# Altium integrated library Silicon Labs Isolation and Power.IntLib: 421 symbols (part 9 of 19)
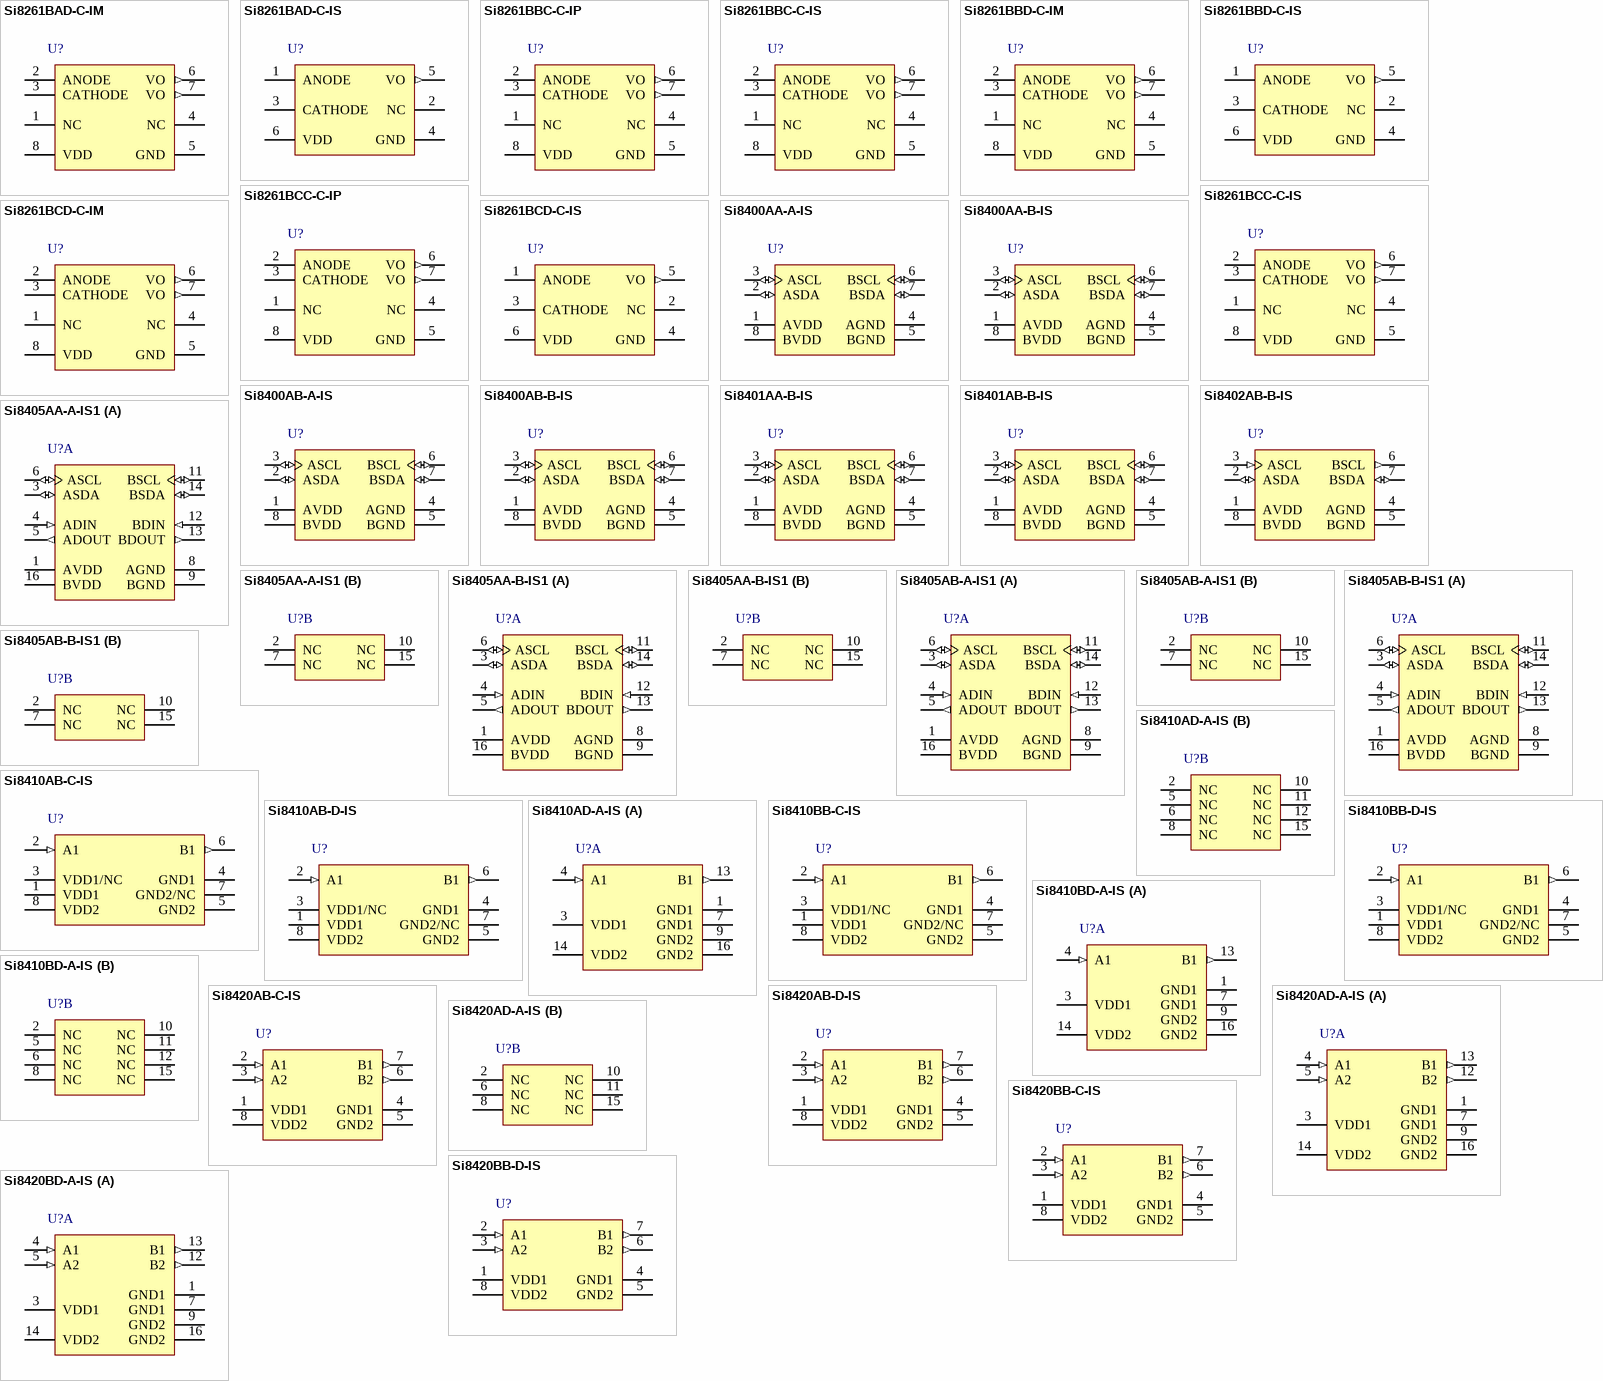
[diagram p22: symbols Si8261BAD-C-IM to Si8420BD-A-IS]

## Si8420BB-D-IS
designator U?
Low-Power Single and Dual-Channel Digital Isolator, 150 Mbps, 2.5 kVRMS Isolation Rating, -40 to 125 degC, 8-pin SOIC; Manufacturer: Silicon Labs; PartNumber: Si8420BB-D-IS; 10kV surge: FALSE; Channel Type: Unidirectional; Isolation Rating (kV): 2.5; Maximum Data Rate (Mbps): 150; Maximum Propagation Delay (ns): 9.5; Sub-Family: Isolators; DatasheetVersion: Rev. 1.4; PackageReference: SOIC-8-NB; PackageDescription: 8-Pin Narrow Body Plastic Small Outline, Body 4.9 x 3.9 mm, Pitch 1.27 mm; Supplier 1: Digi-Key; Supplier Part Number 1: 336-1754-5-ND; Supplier 2: Mouser; Supplier Part Number 2: 634-SI8420BB-D-IS; AEC-Q100: FALSE; Enable Control: FALSE; Mounting Technology: Surface Mount; ComponentLink1Description: Manufacturer URL; ComponentLink1URL: http://www.silabs.com/; ComponentLink2Description: Datasheet; ComponentLink2URL: http://www.silabs.com/Support%20Documents/TechnicalDocs/Si8410.pdf; ComponentLink3Description: Package Specification; ComponentLink3URL: http://www.silabs.com/Support%20Documents/TechnicalDocs/Si8220-21.pdf
footprint SLAB-SOIC-8-NB_N (SOIC, 8-Leads, Body 5x4mm, Pitch 1.27mm, IPC Medium Density)
footprint SLAB-SOIC-8-NB_L (SOIC, 8-Leads, Body 5x4mm, Pitch 1.27mm, IPC High Density)
footprint SLAB-SOIC-8-NB_M (SOIC, 8-Leads, Body 5x4mm, Pitch 1.27mm, IPC Low Density)
pins: 1 VDD1 (power) "Side 1 power supply.", 2 A1 (in) "Side 1 digital input.", 3 A2 (in) "Side 1 digital input.", 4 GND1 (power) "Side 1 ground.", 5 GND2 (power) "Side 2 ground.", 6 B2 (out) "Side 2 digital output.", 7 B1 (out) "Side 2 digital output.", 8 VDD2 (power) "Side 2 power supply."

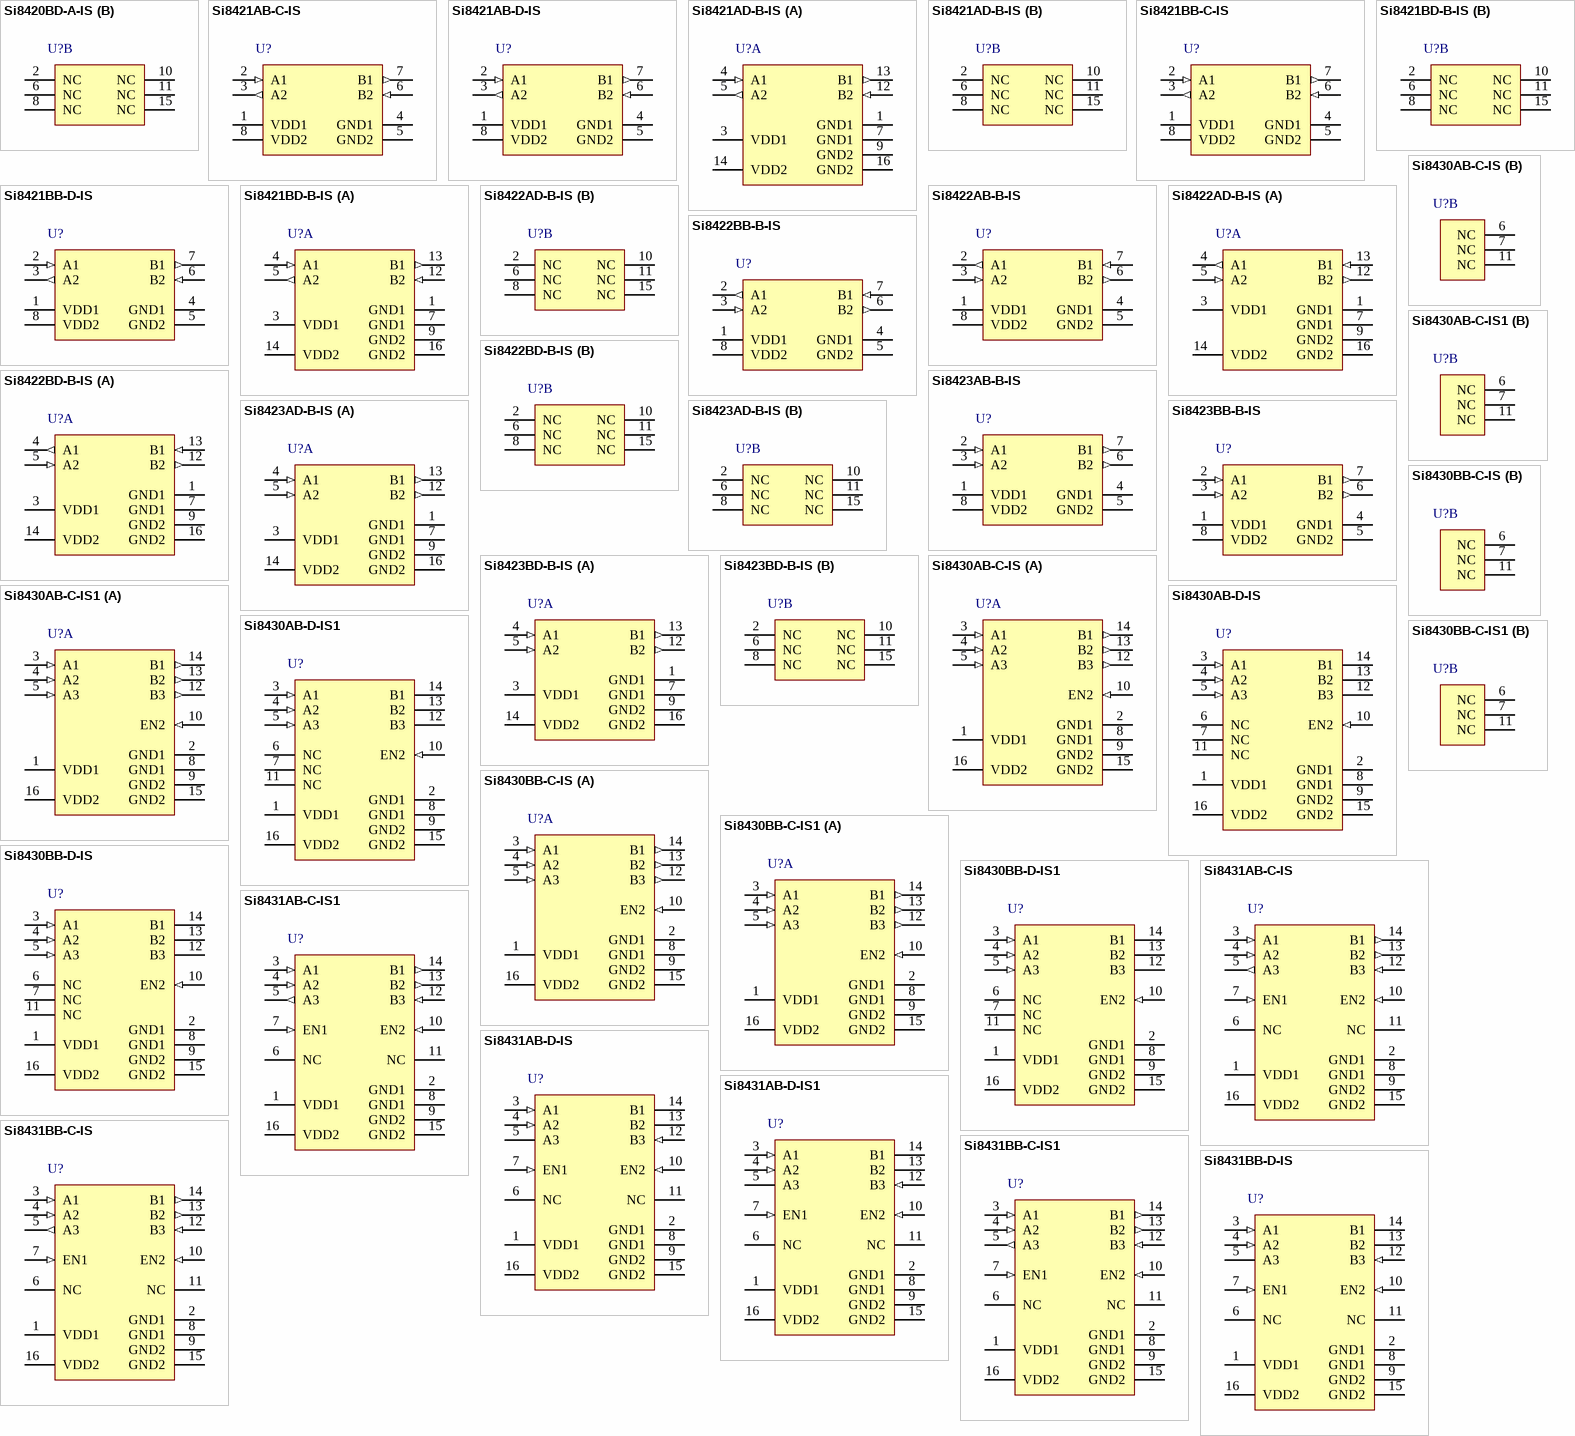
[diagram p6: symbols Si8420BD-A-IS to Si8431BB-D-IS]

## Si8420BD-A-IS
designator U?
Low-Power, Single and Dual-Channel Digital Isolator, 150 Mbps, 5 kVRMS Isolation Rating, -40 to 125 degC, 16-pin SOIC; Manufacturer: Silicon Labs; PartNumber: Si8420BD-A-IS; 10kV surge: FALSE; Channel Type: Unidirectional; Isolation Rating (kV): 5; Maximum Data Rate (Mbps): 150; Maximum Propagation Delay (ns): 11; Sub-Family: Isolators; DatasheetVersion: Rev. 1.2; PackageReference: SOIC-16-WB; PackageDescription: 16-Pin Wide Body Plastic Small Outline, Body 10.3 x 7.5 mm, Pitch 1.27 mm; Supplier 1: Digi-Key; Supplier Part Number 1: 336-1934-5-ND; Supplier 2: Mouser; Supplier Part Number 2: 634-SI8420BD-A-IS; AEC-Q100: FALSE; Enable Control: FALSE; Mounting Technology: Surface Mount; Code_JEDEC: MS-013; ComponentLink1Description: Manufacturer URL; ComponentLink1URL: http://www.silabs.com/; ComponentLink2Description: Datasheet; ComponentLink2URL: http://www.silabs.com/Support%20Documents/TechnicalDocs/Si841x-2x.pdf; ComponentLink3Description: Package Specification; ComponentLink3URL: https://www.silabs.com/Support%20Documents/TechnicalDocs/Si823x.pdf
footprint SLAB-SOIC-16-WB_N (SOIC, 16-Leads, Body 10.3x7.5mm, Pitch 1.27mm, IPC Medium Density)
footprint SLAB-SOIC-16-WB_L (SOIC, 16-Leads, Body 10.3x7.5mm, Pitch 1.27mm, IPC High Density)
footprint SLAB-SOIC-16-WB_M (SOIC, 16-Leads, Body 10.3x7.5mm, Pitch 1.27mm, IPC Low Density)
part A pins: 1 GND1 (power) "Side 1 ground.", 3 VDD1 (power) "Side 1 power supply.", 4 A1 (in) "Side 1 digital input.", 5 A2 (in) "Side 1 digital input.", 7 GND1 (power) "Side 1 ground.", 9 GND2 (power) "Side 2 ground.", 12 B2 (out) "Side 2 digital output.", 13 B1 (out) "Side 2 digital output.", 14 VDD2 (power) "Side 2 power supply.", 16 GND2 (power) "Side 2 ground."
part B pins: 2 NC "No Connect", 6 NC "No Connect", 8 NC "No Connect", 10 NC "No Connect", 11 NC "No Connect", 15 NC "No Connect"

## Si8421AB-C-IS
designator U?
Low-Power Single and Dual-Channel Digital Isolator, 1 Mbps, 2.5 kVRMS Isolation Rating, -40 to 125 degC, 8-pin SOIC; Manufacturer: Silicon Labs; PartNumber: Si8421AB-C-IS; Note: 0; 10kV surge: FALSE; Channel Type: Unidirectional; Isolation Rating (kV): 2.5; Maximum Data Rate (Mbps): 1; Maximum Propagation Delay (ns): 35; Sub-Family: Isolators; DatasheetVersion: Rev. 1.4; PackageReference: SOIC-8-NB; PackageDescription: 8-Pin Narrow Body Plastic Small Outline, Body 4.9 x 3.9 mm, Pitch 1.27 mm; AEC-Q100: FALSE; Enable Control: FALSE; Mounting Technology: Surface Mount; ComponentLink1Description: Manufacturer URL; ComponentLink1URL: http://www.silabs.com/; ComponentLink2Description: Datasheet; ComponentLink2URL: http://www.silabs.com/Support%20Documents/TechnicalDocs/Si8410.pdf; ComponentLink3Description: Package Specification; ComponentLink3URL: http://www.silabs.com/Support%20Documents/TechnicalDocs/Si8220-21.pdf
footprint SLAB-SOIC-8-NB_N (SOIC, 8-Leads, Body 5x4mm, Pitch 1.27mm, IPC Medium Density)
footprint SLAB-SOIC-8-NB_L (SOIC, 8-Leads, Body 5x4mm, Pitch 1.27mm, IPC High Density)
footprint SLAB-SOIC-8-NB_M (SOIC, 8-Leads, Body 5x4mm, Pitch 1.27mm, IPC Low Density)
pins: 1 VDD1 (power) "Side 1 power supply.", 2 A1 (in) "Side 1 digital input", 3 A2 (out) "Side 1 digital output.", 4 GND1 (power) "Side 1 ground.", 5 GND2 (power) "Side 2 ground.", 6 B2 (in) "Side 2 digital input", 7 B1 (out) "Side 2 digital output.", 8 VDD2 (power) "Side 2 power supply."

## Si8421AB-D-IS
designator U?
Low-Power Single and Dual-Channel Digital Isolator, 1 Mbps, 2.5 kVRMS Isolation Rating, -40 to 125 degC, 8-pin SOIC; Manufacturer: Silicon Labs; PartNumber: Si8421AB-D-IS; 10kV surge: FALSE; Channel Type: Unidirectional; Isolation Rating (kV): 2.5; Maximum Data Rate (Mbps): 1; Maximum Propagation Delay (ns): 35; Sub-Family: Isolators; DatasheetVersion: Rev. 1.4; PackageReference: SOIC-8-NB; PackageDescription: 8-Pin Narrow Body Plastic Small Outline, Body 4.9 x 3.9 mm, Pitch 1.27 mm; Supplier 1: Digi-Key; Supplier Part Number 1: 336-1755-5-ND; Supplier 2: Mouser; Supplier Part Number 2: 634-SI8421AB-D-IS; AEC-Q100: FALSE; Enable Control: FALSE; Mounting Technology: Surface Mount; ComponentLink1Description: Manufacturer URL; ComponentLink1URL: http://www.silabs.com/; ComponentLink2Description: Datasheet; ComponentLink2URL: http://www.silabs.com/Support%20Documents/TechnicalDocs/Si8410.pdf; ComponentLink3Description: Package Specification; ComponentLink3URL: http://www.silabs.com/Support%20Documents/TechnicalDocs/Si8220-21.pdf
footprint SLAB-SOIC-8-NB_N (SOIC, 8-Leads, Body 5x4mm, Pitch 1.27mm, IPC Medium Density)
footprint SLAB-SOIC-8-NB_L (SOIC, 8-Leads, Body 5x4mm, Pitch 1.27mm, IPC High Density)
footprint SLAB-SOIC-8-NB_M (SOIC, 8-Leads, Body 5x4mm, Pitch 1.27mm, IPC Low Density)
pins: 1 VDD1 (power) "Side 1 power supply.", 2 A1 (in) "Side 1 digital input", 3 A2 (out) "Side 1 digital output.", 4 GND1 (power) "Side 1 ground.", 5 GND2 (power) "Side 2 ground.", 6 B2 (in) "Side 2 digital input", 7 B1 (out) "Side 2 digital output.", 8 VDD2 (power) "Side 2 power supply."

## Si8421AD-B-IS
designator U?
Low-Power, Single and Dual-Channel Digital Isolator, 1 Mbps, 5 kVRMS Isolation Rating, -40 to 125 degC, 16-pin SOIC; Manufacturer: Silicon Labs; PartNumber: Si8421AD-B-IS; 10kV surge: FALSE; Channel Type: Unidirectional; Isolation Rating (kV): 5; Maximum Data Rate (Mbps): 1; Maximum Propagation Delay (ns): 35; Sub-Family: Isolators; DatasheetVersion: Rev. 1.2; PackageReference: SOIC-16-WB; PackageDescription: 16-Pin Wide Body Plastic Small Outline, Body 10.3 x 7.5 mm, Pitch 1.27 mm; Supplier 1: Digi-Key; Supplier Part Number 1: 336-1935-5-ND; Supplier 2: Mouser; Supplier Part Number 2: 634-SI8421AD-B-IS; AEC-Q100: FALSE; Enable Control: FALSE; Mounting Technology: Surface Mount; Code_JEDEC: MS-013; ComponentLink1Description: Manufacturer URL; ComponentLink1URL: http://www.silabs.com/; ComponentLink2Description: Datasheet; ComponentLink2URL: http://www.silabs.com/Support%20Documents/TechnicalDocs/Si841x-2x.pdf; ComponentLink3Description: Package Specification; ComponentLink3URL: https://www.silabs.com/Support%20Documents/TechnicalDocs/Si823x.pdf
footprint SLAB-SOIC-16-WB_N (SOIC, 16-Leads, Body 10.3x7.5mm, Pitch 1.27mm, IPC Medium Density)
footprint SLAB-SOIC-16-WB_L (SOIC, 16-Leads, Body 10.3x7.5mm, Pitch 1.27mm, IPC High Density)
footprint SLAB-SOIC-16-WB_M (SOIC, 16-Leads, Body 10.3x7.5mm, Pitch 1.27mm, IPC Low Density)
part A pins: 1 GND1 (power) "Side 1 ground.", 3 VDD1 (power) "Side 1 power supply.", 4 A1 (in) "Side 1 digital input.", 5 A2 (out) "Side 1 digital output.", 7 GND1 (power) "Side 1 ground.", 9 GND2 (power) "Side 2 ground.", 12 B2 (in) "Side 2 digital input.", 13 B1 (out) "Side 2 digital output.", 14 VDD2 (power) "Side 2 power supply.", 16 GND2 (power) "Side 2 ground."
part B pins: 2 NC "No Connect", 6 NC "No Connect", 8 NC "No Connect", 10 NC "No Connect", 11 NC "No Connect", 15 NC "No Connect"

## Si8421BB-C-IS
designator U?
Low-Power Single and Dual-Channel Digital Isolator, 150 Mbps, 2.5 kVRMS Isolation Rating, -40 to 125 degC, 8-pin SOIC; Manufacturer: Silicon Labs; PartNumber: Si8421BB-C-IS; 10kV surge: FALSE; Channel Type: Unidirectional; Isolation Rating (kV): 2.5; Maximum Data Rate (Mbps): 150; Maximum Propagation Delay (ns): 9.5; Sub-Family: Isolators; DatasheetVersion: Rev. 1.4; PackageReference: SOIC-8-NB; PackageDescription: 8-Pin Narrow Body Plastic Small Outline, Body 4.9 x 3.9 mm, Pitch 1.27 mm; Supplier 1: Mouser; Supplier Part Number 1: 634-SI8421BB-C-IS; AEC-Q100: FALSE; Enable Control: FALSE; Mounting Technology: Surface Mount; ComponentLink1Description: Manufacturer URL; ComponentLink1URL: http://www.silabs.com/; ComponentLink2Description: Datasheet; ComponentLink2URL: http://www.silabs.com/Support%20Documents/TechnicalDocs/Si8410.pdf; ComponentLink3Description: Package Specification; ComponentLink3URL: http://www.silabs.com/Support%20Documents/TechnicalDocs/Si8220-21.pdf
footprint SLAB-SOIC-8-NB_N (SOIC, 8-Leads, Body 5x4mm, Pitch 1.27mm, IPC Medium Density)
footprint SLAB-SOIC-8-NB_L (SOIC, 8-Leads, Body 5x4mm, Pitch 1.27mm, IPC High Density)
footprint SLAB-SOIC-8-NB_M (SOIC, 8-Leads, Body 5x4mm, Pitch 1.27mm, IPC Low Density)
pins: 1 VDD1 (power) "Side 1 power supply.", 2 A1 (in) "Side 1 digital input", 3 A2 (out) "Side 1 digital output.", 4 GND1 (power) "Side 1 ground.", 5 GND2 (power) "Side 2 ground.", 6 B2 (in) "Side 2 digital input", 7 B1 (out) "Side 2 digital output.", 8 VDD2 (power) "Side 2 power supply."

## Si8421BB-D-IS
designator U?
Low-Power Single and Dual-Channel Digital Isolator, 150 Mbps, 2.5 kVRMS Isolation Rating, -40 to 125 degC, 8-pin SOIC; Manufacturer: Silicon Labs; PartNumber: Si8421BB-D-IS; 10kV surge: FALSE; Channel Type: Unidirectional; Isolation Rating (kV): 2.5; Maximum Data Rate (Mbps): 150; Maximum Propagation Delay (ns): 9.5; Sub-Family: Isolators; DatasheetVersion: Rev. 1.4; PackageReference: SOIC-8-NB; PackageDescription: 8-Pin Narrow Body Plastic Small Outline, Body 4.9 x 3.9 mm, Pitch 1.27 mm; Supplier 1: Digi-Key; Supplier Part Number 1: 336-1756-5-ND; Supplier 2: Mouser; Supplier Part Number 2: 634-SI8421BB-D-IS; AEC-Q100: FALSE; Enable Control: FALSE; Mounting Technology: Surface Mount; ComponentLink1Description: Manufacturer URL; ComponentLink1URL: http://www.silabs.com/; ComponentLink2Description: Datasheet; ComponentLink2URL: http://www.silabs.com/Support%20Documents/TechnicalDocs/Si8410.pdf; ComponentLink3Description: Package Specification; ComponentLink3URL: http://www.silabs.com/Support%20Documents/TechnicalDocs/Si8220-21.pdf
footprint SLAB-SOIC-8-NB_N (SOIC, 8-Leads, Body 5x4mm, Pitch 1.27mm, IPC Medium Density)
footprint SLAB-SOIC-8-NB_L (SOIC, 8-Leads, Body 5x4mm, Pitch 1.27mm, IPC High Density)
footprint SLAB-SOIC-8-NB_M (SOIC, 8-Leads, Body 5x4mm, Pitch 1.27mm, IPC Low Density)
pins: 1 VDD1 (power) "Side 1 power supply.", 2 A1 (in) "Side 1 digital input", 3 A2 (out) "Side 1 digital output.", 4 GND1 (power) "Side 1 ground.", 5 GND2 (power) "Side 2 ground.", 6 B2 (in) "Side 2 digital input", 7 B1 (out) "Side 2 digital output.", 8 VDD2 (power) "Side 2 power supply."

## Si8421BD-B-IS
designator U?
Low-Power, Single and Dual-Channel Digital Isolator, 150 Mbps, 5 kVRMS Isolation Rating, -40 to 125 degC, 16-pin SOIC; Manufacturer: Silicon Labs; PartNumber: Si8421BD-B-IS; 10kV surge: FALSE; Channel Type: Unidirectional; Isolation Rating (kV): 5; Maximum Data Rate (Mbps): 150; Maximum Propagation Delay (ns): 11; Sub-Family: Isolators; DatasheetVersion: Rev. 1.2; PackageReference: SOIC-16-WB; PackageDescription: 16-Pin Wide Body Plastic Small Outline, Body 10.3 x 7.5 mm, Pitch 1.27 mm; Supplier 1: Digi-Key; Supplier Part Number 1: 336-1936-5-ND; Supplier 2: Mouser; Supplier Part Number 2: 634-SI8421BD-B-IS; AEC-Q100: FALSE; Enable Control: FALSE; Mounting Technology: Surface Mount; Code_JEDEC: MS-013; ComponentLink1Description: Manufacturer URL; ComponentLink1URL: http://www.silabs.com/; ComponentLink2Description: Datasheet; ComponentLink2URL: http://www.silabs.com/Support%20Documents/TechnicalDocs/Si841x-2x.pdf; ComponentLink3Description: Package Specification; ComponentLink3URL: https://www.silabs.com/Support%20Documents/TechnicalDocs/Si823x.pdf
footprint SLAB-SOIC-16-WB_N (SOIC, 16-Leads, Body 10.3x7.5mm, Pitch 1.27mm, IPC Medium Density)
footprint SLAB-SOIC-16-WB_L (SOIC, 16-Leads, Body 10.3x7.5mm, Pitch 1.27mm, IPC High Density)
footprint SLAB-SOIC-16-WB_M (SOIC, 16-Leads, Body 10.3x7.5mm, Pitch 1.27mm, IPC Low Density)
part A pins: 1 GND1 (power) "Side 1 ground.", 3 VDD1 (power) "Side 1 power supply.", 4 A1 (in) "Side 1 digital input.", 5 A2 (out) "Side 1 digital output.", 7 GND1 (power) "Side 1 ground.", 9 GND2 (power) "Side 2 ground.", 12 B2 (in) "Side 2 digital input.", 13 B1 (out) "Side 2 digital output.", 14 VDD2 (power) "Side 2 power supply.", 16 GND2 (power) "Side 2 ground."
part B pins: 2 NC "No Connect", 6 NC "No Connect", 8 NC "No Connect", 10 NC "No Connect", 11 NC "No Connect", 15 NC "No Connect"

## Si8422AB-B-IS
designator U?
Low-Power, Single and Dual-Channel Digital Isolator, 1 Mbps, 2.5 kVRMS Isolation Rating, -40 to 125 degC, 8-pin SOIC; Manufacturer: Silicon Labs; PartNumber: Si8422AB-B-IS; 10kV surge: FALSE; Channel Type: Unidirectional; Isolation Rating (kV): 2.5; Maximum Data Rate (Mbps): 1; Maximum Propagation Delay (ns): 35; Sub-Family: Isolators; DatasheetVersion: Rev. 1.2; PackageReference: SOIC-8-NB; PackageDescription: 8-Pin Narrow Body Plastic Small Outline, Body 4.9 x 3.9 mm, Pitch 1.27 mm; Supplier 1: Digi-Key; Supplier Part Number 1: SI8422AB-B-IS-ND; Supplier 2: Mouser; Supplier Part Number 2: 634-SI8422AB-B-IS; AEC-Q100: FALSE; Enable Control: FALSE; Mounting Technology: Surface Mount; ComponentLink1Description: Manufacturer URL; ComponentLink1URL: http://www.silabs.com/; ComponentLink2Description: Datasheet; ComponentLink2URL: http://www.silabs.com/Support%20Documents/TechnicalDocs/Si841x-2x.pdf; ComponentLink3Description: Package Specification; ComponentLink3URL: http://www.silabs.com/Support%20Documents/TechnicalDocs/Si8220-21.pdf
footprint SLAB-SOIC-8-NB_N (SOIC, 8-Leads, Body 5x4mm, Pitch 1.27mm, IPC Medium Density)
footprint SLAB-SOIC-8-NB_L (SOIC, 8-Leads, Body 5x4mm, Pitch 1.27mm, IPC High Density)
footprint SLAB-SOIC-8-NB_M (SOIC, 8-Leads, Body 5x4mm, Pitch 1.27mm, IPC Low Density)
pins: 1 VDD1 (power) "Side 1 power supply.", 2 A1 (out) "Side 1 digital output.", 3 A2 (in) "Side 1 digital input.", 4 GND1 (power) "Side 1 ground.", 5 GND2 (power) "Side 2 ground.", 6 B2 (out) "Side 2 digital output.", 7 B1 (in) "Side 2 digital input.", 8 VDD2 (power) "Side 2 power supply."

## Si8422AD-B-IS
designator U?
Low-Power, Single and Dual-Channel Digital Isolator, 1 Mbps, 5 kVRMS Isolation Rating, -40 to 125 degC, 16-pin SOIC; Manufacturer: Silicon Labs; PartNumber: Si8422AD-B-IS; 10kV surge: FALSE; Channel Type: Unidirectional; Isolation Rating (kV): 5; Maximum Data Rate (Mbps): 1; Maximum Propagation Delay (ns): 35; Sub-Family: Isolators; DatasheetVersion: Rev. 1.2; PackageReference: SOIC-16-WB; PackageDescription: 16-Pin Wide Body Plastic Small Outline, Body 10.3 x 7.5 mm, Pitch 1.27 mm; Supplier 1: Digi-Key; Supplier Part Number 1: 336-1937-5-ND; Supplier 2: Mouser; Supplier Part Number 2: 634-SI8422AD-B-IS; AEC-Q100: FALSE; Enable Control: FALSE; Mounting Technology: Surface Mount; Code_JEDEC: MS-013; ComponentLink1Description: Manufacturer URL; ComponentLink1URL: http://www.silabs.com/; ComponentLink2Description: Datasheet; ComponentLink2URL: http://www.silabs.com/Support%20Documents/TechnicalDocs/Si841x-2x.pdf; ComponentLink3Description: Package Specification; ComponentLink3URL: https://www.silabs.com/Support%20Documents/TechnicalDocs/Si823x.pdf
footprint SLAB-SOIC-16-WB_N (SOIC, 16-Leads, Body 10.3x7.5mm, Pitch 1.27mm, IPC Medium Density)
footprint SLAB-SOIC-16-WB_L (SOIC, 16-Leads, Body 10.3x7.5mm, Pitch 1.27mm, IPC High Density)
footprint SLAB-SOIC-16-WB_M (SOIC, 16-Leads, Body 10.3x7.5mm, Pitch 1.27mm, IPC Low Density)
part A pins: 1 GND1 (power) "Side 1 ground.", 3 VDD1 (power) "Side 1 power supply.", 4 A1 (out) "Side 1 digital output.", 5 A2 (in) "Side 1 digital intput.", 7 GND1 (power) "Side 1 ground.", 9 GND2 (power) "Side 2 ground.", 12 B2 (out) "Side 2 digital output.", 13 B1 (in) "Side 2 digital intput.", 14 VDD2 (power) "Side 2 power supply.", 16 GND2 (power) "Side 2 ground."
part B pins: 2 NC "No Connect", 6 NC "No Connect", 8 NC "No Connect", 10 NC "No Connect", 11 NC "No Connect", 15 NC "No Connect"

## Si8422BB-B-IS
designator U?
Low-Power, Single and Dual-Channel Digital Isolator, 150 Mbps, 2.5 kVRMS Isolation Rating, -40 to 125 degC, 8-pin SOIC; Manufacturer: Silicon Labs; PartNumber: Si8422BB-B-IS; 10kV surge: FALSE; Channel Type: Unidirectional; Isolation Rating (kV): 2.5; Maximum Data Rate (Mbps): 150; Maximum Propagation Delay (ns): 11; Sub-Family: Isolators; DatasheetVersion: Rev. 1.2; PackageReference: SOIC-8-NB; PackageDescription: 8-Pin Narrow Body Plastic Small Outline, Body 4.9 x 3.9 mm, Pitch 1.27 mm; Supplier 1: Digi-Key; Supplier Part Number 1: SI8422BB-B-IS-ND; Supplier 2: Mouser; Supplier Part Number 2: 634-SI8422BB-B-IS; AEC-Q100: FALSE; Enable Control: FALSE; Mounting Technology: Surface Mount; ComponentLink1Description: Manufacturer URL; ComponentLink1URL: http://www.silabs.com/; ComponentLink2Description: Datasheet; ComponentLink2URL: http://www.silabs.com/Support%20Documents/TechnicalDocs/Si841x-2x.pdf; ComponentLink3Description: Package Specification; ComponentLink3URL: http://www.silabs.com/Support%20Documents/TechnicalDocs/Si8220-21.pdf
footprint SLAB-SOIC-8-NB_N (SOIC, 8-Leads, Body 5x4mm, Pitch 1.27mm, IPC Medium Density)
footprint SLAB-SOIC-8-NB_L (SOIC, 8-Leads, Body 5x4mm, Pitch 1.27mm, IPC High Density)
footprint SLAB-SOIC-8-NB_M (SOIC, 8-Leads, Body 5x4mm, Pitch 1.27mm, IPC Low Density)
pins: 1 VDD1 (power) "Side 1 power supply.", 2 A1 (out) "Side 1 digital output.", 3 A2 (in) "Side 1 digital input.", 4 GND1 (power) "Side 1 ground.", 5 GND2 (power) "Side 2 ground.", 6 B2 (out) "Side 2 digital output.", 7 B1 (in) "Side 2 digital input.", 8 VDD2 (power) "Side 2 power supply."

## Si8422BD-B-IS
designator U?
Low-Power, Single and Dual-Channel Digital Isolator, 150 Mbps, 5 kVRMS Isolation Rating, -40 to 125 degC, 16-pin SOIC; Manufacturer: Silicon Labs; PartNumber: Si8422BD-B-IS; 10kV surge: FALSE; Channel Type: Unidirectional; Isolation Rating (kV): 5; Maximum Data Rate (Mbps): 150; Maximum Propagation Delay (ns): 11; Sub-Family: Isolators; DatasheetVersion: Rev. 1.2; PackageReference: SOIC-16-WB; PackageDescription: 16-Pin Wide Body Plastic Small Outline, Body 10.3 x 7.5 mm, Pitch 1.27 mm; Supplier 1: Digi-Key; Supplier Part Number 1: 336-1938-5-ND; Supplier 2: Mouser; Supplier Part Number 2: 634-SI8422BD-B-IS; AEC-Q100: FALSE; Enable Control: FALSE; Mounting Technology: Surface Mount; Code_JEDEC: MS-013; ComponentLink1Description: Manufacturer URL; ComponentLink1URL: http://www.silabs.com/; ComponentLink2Description: Datasheet; ComponentLink2URL: http://www.silabs.com/Support%20Documents/TechnicalDocs/Si841x-2x.pdf; ComponentLink3Description: Package Specification; ComponentLink3URL: https://www.silabs.com/Support%20Documents/TechnicalDocs/Si823x.pdf
footprint SLAB-SOIC-16-WB_N (SOIC, 16-Leads, Body 10.3x7.5mm, Pitch 1.27mm, IPC Medium Density)
footprint SLAB-SOIC-16-WB_L (SOIC, 16-Leads, Body 10.3x7.5mm, Pitch 1.27mm, IPC High Density)
footprint SLAB-SOIC-16-WB_M (SOIC, 16-Leads, Body 10.3x7.5mm, Pitch 1.27mm, IPC Low Density)
part A pins: 1 GND1 (power) "Side 1 ground.", 3 VDD1 (power) "Side 1 power supply.", 4 A1 (out) "Side 1 digital output.", 5 A2 (in) "Side 1 digital intput.", 7 GND1 (power) "Side 1 ground.", 9 GND2 (power) "Side 2 ground.", 12 B2 (out) "Side 2 digital output.", 13 B1 (in) "Side 2 digital intput.", 14 VDD2 (power) "Side 2 power supply.", 16 GND2 (power) "Side 2 ground."
part B pins: 2 NC "No Connect", 6 NC "No Connect", 8 NC "No Connect", 10 NC "No Connect", 11 NC "No Connect", 15 NC "No Connect"

## Si8423AB-B-IS
designator U?
Low-Power, Single and Dual-Channel Digital Isolator, 1 Mbps, 2.5 kVRMS Isolation Rating, -40 to 125 degC, 8-pin SOIC; Manufacturer: Silicon Labs; PartNumber: Si8423AB-B-IS; 10kV surge: FALSE; Channel Type: Unidirectional; Isolation Rating (kV): 2.5; Maximum Data Rate (Mbps): 1; Maximum Propagation Delay (ns): 35; Sub-Family: Isolators; DatasheetVersion: Rev. 1.2; PackageReference: SOIC-8-NB; PackageDescription: 8-Pin Narrow Body Plastic Small Outline, Body 4.9 x 3.9 mm, Pitch 1.27 mm; Supplier 1: Digi-Key; Supplier Part Number 1: SI8423AB-B-IS-ND; Supplier 2: Mouser; Supplier Part Number 2: 634-SI8423AB-B-IS; AEC-Q100: FALSE; Enable Control: FALSE; Mounting Technology: Surface Mount; ComponentLink1Description: Manufacturer URL; ComponentLink1URL: http://www.silabs.com/; ComponentLink2Description: Datasheet; ComponentLink2URL: http://www.silabs.com/Support%20Documents/TechnicalDocs/Si841x-2x.pdf; ComponentLink3Description: Package Specification; ComponentLink3URL: http://www.silabs.com/Support%20Documents/TechnicalDocs/Si8220-21.pdf
footprint SLAB-SOIC-8-NB_N (SOIC, 8-Leads, Body 5x4mm, Pitch 1.27mm, IPC Medium Density)
footprint SLAB-SOIC-8-NB_L (SOIC, 8-Leads, Body 5x4mm, Pitch 1.27mm, IPC High Density)
footprint SLAB-SOIC-8-NB_M (SOIC, 8-Leads, Body 5x4mm, Pitch 1.27mm, IPC Low Density)
pins: 1 VDD1 (power) "Side 1 power supply.", 2 A1 (in) "Side 1 digital input.", 3 A2 (in) "Side 1 digital input.", 4 GND1 (power) "Side 1 ground.", 5 GND2 (power) "Side 2 ground.", 6 B2 (out) "Side 2 digital output.", 7 B1 (out) "Side 2 digital output.", 8 VDD2 (power) "Side 2 power supply."

## Si8423AD-B-IS
designator U?
Low-Power, Single and Dual-Channel Digital Isolator, 1 Mbps, 5 kVRMS Isolation Rating, -40 to 125 degC, 16-pin SOIC; Manufacturer: Silicon Labs; PartNumber: Si8423AD-B-IS; 10kV surge: FALSE; Channel Type: Unidirectional; Isolation Rating (kV): 5; Maximum Data Rate (Mbps): 1; Maximum Propagation Delay (ns): 35; Sub-Family: Isolators; DatasheetVersion: Rev. 1.2; PackageReference: SOIC-16-WB; PackageDescription: 16-Pin Wide Body Plastic Small Outline, Body 10.3 x 7.5 mm, Pitch 1.27 mm; Supplier 1: Digi-Key; Supplier Part Number 1: 336-1939-5-ND; Supplier 2: Mouser; Supplier Part Number 2: 634-SI8423AD-B-IS; AEC-Q100: FALSE; Enable Control: FALSE; Mounting Technology: Surface Mount; Code_JEDEC: MS-013; ComponentLink1Description: Manufacturer URL; ComponentLink1URL: http://www.silabs.com/; ComponentLink2Description: Datasheet; ComponentLink2URL: http://www.silabs.com/Support%20Documents/TechnicalDocs/Si841x-2x.pdf; ComponentLink3Description: Package Specification; ComponentLink3URL: https://www.silabs.com/Support%20Documents/TechnicalDocs/Si823x.pdf
footprint SLAB-SOIC-16-WB_N (SOIC, 16-Leads, Body 10.3x7.5mm, Pitch 1.27mm, IPC Medium Density)
footprint SLAB-SOIC-16-WB_L (SOIC, 16-Leads, Body 10.3x7.5mm, Pitch 1.27mm, IPC High Density)
footprint SLAB-SOIC-16-WB_M (SOIC, 16-Leads, Body 10.3x7.5mm, Pitch 1.27mm, IPC Low Density)
part A pins: 1 GND1 (power) "Side 1 ground.", 3 VDD1 (power) "Side 1 power supply.", 4 A1 (in) "Side 1 digital input.", 5 A2 (in) "Side 1 digital input.", 7 GND1 (power) "Side 1 ground.", 9 GND2 (power) "Side 2 ground.", 12 B2 (out) "Side 2 digital output.", 13 B1 (out) "Side 2 digital output.", 14 VDD2 (power) "Side 2 power supply.", 16 GND2 (power) "Side 2 ground."
part B pins: 2 NC "No Connect", 6 NC "No Connect", 8 NC "No Connect", 10 NC "No Connect", 11 NC "No Connect", 15 NC "No Connect"

## Si8423BB-B-IS
designator U?
Low-Power, Single and Dual-Channel Digital Isolator, 150 Mbps, 2.5 kVRMS Isolation Rating, -40 to 125 degC, 8-pin SOIC; Manufacturer: Silicon Labs; PartNumber: Si8423BB-B-IS; 10kV surge: FALSE; Channel Type: Unidirectional; Isolation Rating (kV): 2.5; Maximum Data Rate (Mbps): 150; Maximum Propagation Delay (ns): 11; Sub-Family: Isolators; DatasheetVersion: Rev. 1.2; PackageReference: SOIC-8-NB; PackageDescription: 8-Pin Narrow Body Plastic Small Outline, Body 4.9 x 3.9 mm, Pitch 1.27 mm; Supplier 1: Digi-Key; Supplier Part Number 1: SI8423BB-B-IS-ND; Supplier 2: Mouser; Supplier Part Number 2: 634-SI8423BB-B-IS; AEC-Q100: FALSE; Enable Control: FALSE; Mounting Technology: Surface Mount; ComponentLink1Description: Manufacturer URL; ComponentLink1URL: http://www.silabs.com/; ComponentLink2Description: Datasheet; ComponentLink2URL: http://www.silabs.com/Support%20Documents/TechnicalDocs/Si841x-2x.pdf; ComponentLink3Description: Package Specification; ComponentLink3URL: http://www.silabs.com/Support%20Documents/TechnicalDocs/Si8220-21.pdf
footprint SLAB-SOIC-8-NB_N (SOIC, 8-Leads, Body 5x4mm, Pitch 1.27mm, IPC Medium Density)
footprint SLAB-SOIC-8-NB_L (SOIC, 8-Leads, Body 5x4mm, Pitch 1.27mm, IPC High Density)
footprint SLAB-SOIC-8-NB_M (SOIC, 8-Leads, Body 5x4mm, Pitch 1.27mm, IPC Low Density)
pins: 1 VDD1 (power) "Side 1 power supply.", 2 A1 (in) "Side 1 digital input.", 3 A2 (in) "Side 1 digital input.", 4 GND1 (power) "Side 1 ground.", 5 GND2 (power) "Side 2 ground.", 6 B2 (out) "Side 2 digital output.", 7 B1 (out) "Side 2 digital output.", 8 VDD2 (power) "Side 2 power supply."

## Si8423BD-B-IS
designator U?
Low-Power, Single and Dual-Channel Digital Isolator, 150 Mbps, 5 kVRMS Isolation Rating, -40 to 125 degC, 16-pin SOIC; Manufacturer: Silicon Labs; PartNumber: Si8423BD-B-IS; 10kV surge: FALSE; Channel Type: Unidirectional; Isolation Rating (kV): 5; Maximum Data Rate (Mbps): 150; Maximum Propagation Delay (ns): 11; Sub-Family: Isolators; DatasheetVersion: Rev. 1.2; PackageReference: SOIC-16-WB; PackageDescription: 16-Pin Wide Body Plastic Small Outline, Body 10.3 x 7.5 mm, Pitch 1.27 mm; Supplier 1: Digi-Key; Supplier Part Number 1: 336-1940-5-ND; Supplier 2: Mouser; Supplier Part Number 2: 634-SI8423BD-B-IS; AEC-Q100: FALSE; Enable Control: FALSE; Mounting Technology: Surface Mount; Code_JEDEC: MS-013; ComponentLink1Description: Manufacturer URL; ComponentLink1URL: http://www.silabs.com/; ComponentLink2Description: Datasheet; ComponentLink2URL: http://www.silabs.com/Support%20Documents/TechnicalDocs/Si841x-2x.pdf; ComponentLink3Description: Package Specification; ComponentLink3URL: https://www.silabs.com/Support%20Documents/TechnicalDocs/Si823x.pdf
footprint SLAB-SOIC-16-WB_N (SOIC, 16-Leads, Body 10.3x7.5mm, Pitch 1.27mm, IPC Medium Density)
footprint SLAB-SOIC-16-WB_L (SOIC, 16-Leads, Body 10.3x7.5mm, Pitch 1.27mm, IPC High Density)
footprint SLAB-SOIC-16-WB_M (SOIC, 16-Leads, Body 10.3x7.5mm, Pitch 1.27mm, IPC Low Density)
part A pins: 1 GND1 (power) "Side 1 ground.", 3 VDD1 (power) "Side 1 power supply.", 4 A1 (in) "Side 1 digital input.", 5 A2 (in) "Side 1 digital input.", 7 GND1 (power) "Side 1 ground.", 9 GND2 (power) "Side 2 ground.", 12 B2 (out) "Side 2 digital output.", 13 B1 (out) "Side 2 digital output.", 14 VDD2 (power) "Side 2 power supply.", 16 GND2 (power) "Side 2 ground."
part B pins: 2 NC "No Connect", 6 NC "No Connect", 8 NC "No Connect", 10 NC "No Connect", 11 NC "No Connect", 15 NC "No Connect"

## Si8430AB-C-IS
designator U?
Low-Power Triple-Channel Digital Isolator, 1 Mbps, 2.5 kVRMS Isolation Rating, -40 to 125 degC, 16-pin SOIC; Manufacturer: Silicon Labs; PartNumber: Si8430AB-C-IS; 10kV surge: FALSE; AEC-Q100: TRUE; Channel Type: Unidirectional; Isolation Rating (kV): 2.5; Maximum Data Rate (Mbps): 1; Maximum Propagation Delay (ns): 35; Sub-Family: Isolators; DatasheetVersion: Rev. 1.5; PackageReference: SOIC-16-WB; PackageDescription: 16-Pin Wide Body Plastic Small Outline, Body 10.3 x 7.5 mm, Pitch 1.27 mm; Supplier 1: Mouser; Supplier Part Number 1: 634-SI8430AB-C-IS; Enable Control: TRUE; Mounting Technology: Surface Mount; Code_JEDEC: MS-013; ComponentLink1Description: Manufacturer URL; ComponentLink1URL: http://www.silabs.com/; ComponentLink2Description: Datasheet; ComponentLink2URL: http://www.silabs.com/Support%20Documents/TechnicalDocs/Si843x.pdf; ComponentLink3Description: Package Specification; ComponentLink3URL: https://www.silabs.com/Support%20Documents/TechnicalDocs/Si823x.pdf
footprint SLAB-SOIC-16-WB_N (SOIC, 16-Leads, Body 10.3x7.5mm, Pitch 1.27mm, IPC Medium Density)
footprint SLAB-SOIC-16-WB_L (SOIC, 16-Leads, Body 10.3x7.5mm, Pitch 1.27mm, IPC High Density)
footprint SLAB-SOIC-16-WB_M (SOIC, 16-Leads, Body 10.3x7.5mm, Pitch 1.27mm, IPC Low Density)
part A pins: 1 VDD1 (power) "Side 1 power supply.", 2 GND1 (power) "Side 1 ground.", 3 A1 (in) "Side 1 digital input.", 4 A2 (in) "Side 1 digital input.", 5 A3 (in) "Side 1 digital input.", 8 GND1 (power) "Side 1 ground.", 9 GND2 (power) "Side 2 ground.", 10 EN2 (in) "Side 2 active high enable.", 12 B3 (out) "Side 2 digital output.", 13 B2 (out) "Side 2 digital output.", 14 B1 (out) "Side 2 digital output.", 15 GND2 (power) "Side 2 ground.", 16 VDD2 (power) "Side 2 power supply."
part B pins: 6 NC "No Connect.", 7 NC "No Connect.", 11 NC "No Connect."

## Si8430AB-C-IS1
designator U?
Low-Power Triple-Channel Digital Isolator, 1 Mbps, 2.5 kVRMS Isolation Rating, -40 to 125 degC, 16-pin SOIC; Manufacturer: Silicon Labs; PartNumber: Si8430AB-C-IS1; 10kV surge: FALSE; Channel Type: Unidirectional; Enable Control: TRUE; Isolation Rating (kV): 2.5; Maximum Data Rate (Mbps): 1; Maximum Propagation Delay (ns): 35; Sub-Family: Isolators; DatasheetVersion: Rev. 1.5; PackageReference: SOIC-16-NB; PackageDescription: 16-Pin Small-Outline Integrated Circuit, Body 9.9 x 3.9 mm, Pitch 1.27 mm; Supplier 1: Digi-Key; Supplier Part Number 1: SI8430AB-C-IS1-ND; AEC-Q100: FALSE; Mounting Technology: Surface Mount; Code_JEDEC: MS-012; Code_IPC: J-STD-020; ComponentLink1Description: Manufacturer URL; ComponentLink1URL: http://www.silabs.com/; ComponentLink2Description: Datasheet; ComponentLink2URL: http://www.silabs.com/Support%20Documents/TechnicalDocs/Si843x.pdf; ComponentLink3Description: Package Specification; ComponentLink3URL: http://www.silabs.com/Support%20Documents/TechnicalDocs/si2401.pdf
footprint SLAB-SOIC-16-NB_N (SOIC, 16-Leads, Body 9.9x3.9mm, Pitch 1.27mm, IPC Medium Density)
footprint SLAB-SOIC-16-NB_L (SOIC, 16-Leads, Body 9.9x3.9mm, Pitch 1.27mm, IPC High Density)
footprint SLAB-SOIC-16-NB_M (SOIC, 16-Leads, Body 9.9x3.9mm, Pitch 1.27mm, IPC Low Density)
part A pins: 1 VDD1 (power) "Side 1 power supply.", 2 GND1 (power) "Side 1 ground.", 3 A1 (in) "Side 1 digital input.", 4 A2 (in) "Side 1 digital input.", 5 A3 (in) "Side 1 digital input.", 8 GND1 (power) "Side 1 ground.", 9 GND2 (power) "Side 2 ground.", 10 EN2 (in) "Side 2 active high enable.", 12 B3 (out) "Side 2 digital output.", 13 B2 (out) "Side 2 digital output.", 14 B1 (out) "Side 2 digital output.", 15 GND2 (power) "Side 2 ground.", 16 VDD2 (power) "Side 2 power supply."
part B pins: 6 NC "No Connect.", 7 NC "No Connect.", 11 NC "No Connect."

## Si8430AB-D-IS
designator U?
Low-Power Triple-Channel Digital Isolator, 1 Mbps, 2.5 kVRMS Isolation Rating, -40 to 125 degC, 16-pin SOIC; Manufacturer: Silicon Labs; PartNumber: Si8430AB-D-IS; 10kV surge: FALSE; AEC-Q100: TRUE; Channel Type: Unidirectional; Isolation Rating (kV): 2.5; Maximum Data Rate (Mbps): 1; Maximum Propagation Delay (ns): 35; Sub-Family: Isolators; DatasheetVersion: Rev. 1.5; PackageReference: SOIC-16-WB; PackageDescription: 16-Pin Wide Body Plastic Small Outline, Body 10.3 x 7.5 mm, Pitch 1.27 mm; Supplier 1: Digi-Key; Supplier Part Number 1: SI8430AB-D-IS-ND; Supplier 2: Mouser; Supplier Part Number 2: 634-SI8430AB-D-IS; Enable Control: TRUE; Mounting Technology: Surface Mount; Code_JEDEC: MS-013; ComponentLink1Description: Manufacturer URL; ComponentLink1URL: http://www.silabs.com/; ComponentLink2Description: Datasheet; ComponentLink2URL: http://www.silabs.com/Support%20Documents/TechnicalDocs/Si843x.pdf; ComponentLink3Description: Package Specification; ComponentLink3URL: https://www.silabs.com/Support%20Documents/TechnicalDocs/Si823x.pdf
footprint SLAB-SOIC-16-WB_N (SOIC, 16-Leads, Body 10.3x7.5mm, Pitch 1.27mm, IPC Medium Density)
footprint SLAB-SOIC-16-WB_L (SOIC, 16-Leads, Body 10.3x7.5mm, Pitch 1.27mm, IPC High Density)
footprint SLAB-SOIC-16-WB_M (SOIC, 16-Leads, Body 10.3x7.5mm, Pitch 1.27mm, IPC Low Density)
pins: 1 VDD1 (power) "Side 1 power supply.", 2 GND1 (power) "Side 1 ground.", 3 A1 (in) "Side 1 digital input.", 4 A2 (in) "Side 1 digital input.", 5 A3 (in) "Side 1 digital input.", 6 NC "No Connect.", 7 NC "No Connect.", 8 GND1 (power) "Side 1 ground.", 9 GND2 (power) "Side 2 ground.", 10 EN2 (in) "Side 2 active high enable.", 11 NC "No Connect.", 12 B3 (hiz) "Side 2 digital output.", 13 B2 (hiz) "Side 2 digital output.", 14 B1 (hiz) "Side 2 digital output.", 15 GND2 (power) "Side 2 ground.", 16 VDD2 (power) "Side 2 power supply."

## Si8430AB-D-IS1
designator U?
Low-Power Triple-Channel Digital Isolator, 1 Mbps, 2.5 kVRMS Isolation Rating, -40 to 125 degC, 16-pin SOIC; Manufacturer: Silicon Labs; PartNumber: Si8430AB-D-IS1; 10kV surge: FALSE; Channel Type: Unidirectional; Enable Control: TRUE; Isolation Rating (kV): 2.5; Maximum Data Rate (Mbps): 1; Maximum Propagation Delay (ns): 35; Sub-Family: Isolators; DatasheetVersion: Rev. 1.5; PackageReference: SOIC-16-NB; PackageDescription: 16-Pin Small-Outline Integrated Circuit, Body 9.9 x 3.9 mm, Pitch 1.27 mm; Supplier 1: Digi-Key; Supplier Part Number 1: 336-1757-5-ND; Supplier 2: Mouser; Supplier Part Number 2: 634-SI8430AB-D-IS1; AEC-Q100: FALSE; Mounting Technology: Surface Mount; Code_JEDEC: MS-012; Code_IPC: J-STD-020; ComponentLink1Description: Manufacturer URL; ComponentLink1URL: http://www.silabs.com/; ComponentLink2Description: Datasheet; ComponentLink2URL: http://www.silabs.com/Support%20Documents/TechnicalDocs/Si843x.pdf; ComponentLink3Description: Package Specification; ComponentLink3URL: http://www.silabs.com/Support%20Documents/TechnicalDocs/si2401.pdf
footprint SLAB-SOIC-16-NB_N (SOIC, 16-Leads, Body 9.9x3.9mm, Pitch 1.27mm, IPC Medium Density)
footprint SLAB-SOIC-16-NB_L (SOIC, 16-Leads, Body 9.9x3.9mm, Pitch 1.27mm, IPC High Density)
footprint SLAB-SOIC-16-NB_M (SOIC, 16-Leads, Body 9.9x3.9mm, Pitch 1.27mm, IPC Low Density)
pins: 1 VDD1 (power) "Side 1 power supply.", 2 GND1 (power) "Side 1 ground.", 3 A1 (in) "Side 1 digital input.", 4 A2 (in) "Side 1 digital input.", 5 A3 (in) "Side 1 digital input.", 6 NC "No Connect.", 7 NC "No Connect.", 8 GND1 (power) "Side 1 ground.", 9 GND2 (power) "Side 2 ground.", 10 EN2 (in) "Side 2 active high enable.", 11 NC "No Connect.", 12 B3 (hiz) "Side 2 digital output.", 13 B2 (hiz) "Side 2 digital output.", 14 B1 (hiz) "Side 2 digital output.", 15 GND2 (power) "Side 2 ground.", 16 VDD2 (power) "Side 2 power supply."

## Si8430BB-C-IS
designator U?
Low-Power Triple-Channel Digital Isolator, 150 Mbps, 2.5 kVRMS Isolation Rating, -40 to 125 degC, 16-pin SOIC; Manufacturer: Silicon Labs; PartNumber: Si8430BB-C-IS; 10kV surge: FALSE; Channel Type: Unidirectional; Enable Control: TRUE; Isolation Rating (kV): 2.5; Maximum Data Rate (Mbps): 150; Maximum Propagation Delay (ns): 9.5; Sub-Family: Isolators; DatasheetVersion: Rev. 1.5; PackageReference: SOIC-16-WB; PackageDescription: 16-Pin Wide Body Plastic Small Outline, Body 10.3 x 7.5 mm, Pitch 1.27 mm; Supplier 1: Mouser; Supplier Part Number 1: 634-SI8430BB-C-IS; AEC-Q100: FALSE; Mounting Technology: Surface Mount; Code_JEDEC: MS-013; ComponentLink1Description: Manufacturer URL; ComponentLink1URL: http://www.silabs.com/; ComponentLink2Description: Datasheet; ComponentLink2URL: http://www.silabs.com/Support%20Documents/TechnicalDocs/Si843x.pdf; ComponentLink3Description: Package Specification; ComponentLink3URL: https://www.silabs.com/Support%20Documents/TechnicalDocs/Si823x.pdf
footprint SLAB-SOIC-16-WB_N (SOIC, 16-Leads, Body 10.3x7.5mm, Pitch 1.27mm, IPC Medium Density)
footprint SLAB-SOIC-16-WB_L (SOIC, 16-Leads, Body 10.3x7.5mm, Pitch 1.27mm, IPC High Density)
footprint SLAB-SOIC-16-WB_M (SOIC, 16-Leads, Body 10.3x7.5mm, Pitch 1.27mm, IPC Low Density)
part A pins: 1 VDD1 (power) "Side 1 power supply.", 2 GND1 (power) "Side 1 ground.", 3 A1 (in) "Side 1 digital input.", 4 A2 (in) "Side 1 digital input.", 5 A3 (in) "Side 1 digital input.", 8 GND1 (power) "Side 1 ground.", 9 GND2 (power) "Side 2 ground.", 10 EN2 (in) "Side 2 active high enable.", 12 B3 (out) "Side 2 digital output.", 13 B2 (out) "Side 2 digital output.", 14 B1 (out) "Side 2 digital output.", 15 GND2 (power) "Side 2 ground.", 16 VDD2 (power) "Side 2 power supply."
part B pins: 6 NC "No Connect.", 7 NC "No Connect.", 11 NC "No Connect."

## Si8430BB-C-IS1
designator U?
Low-Power Triple-Channel Digital Isolator, 150 Mbps, 2.5 kVRMS Isolation Rating, -40 to 125 degC, 16-pin SOIC; Manufacturer: Silicon Labs; PartNumber: Si8430BB-C-IS1; 10kV surge: FALSE; AEC-Q100: TRUE; Channel Type: Unidirectional; Isolation Rating (kV): 2.5; Maximum Data Rate (Mbps): 150; Maximum Propagation Delay (ns): 9.5; Sub-Family: Isolators; DatasheetVersion: Rev. 1.5; PackageReference: SOIC-16-NB; PackageDescription: 16-Pin Small-Outline Integrated Circuit, Body 9.9 x 3.9 mm, Pitch 1.27 mm; Supplier 1: Digi-Key; Supplier Part Number 1: SI8430BB-C-IS1-ND; Supplier 2: Mouser; Supplier Part Number 2: 634-SI8430BB-C-IS1; Enable Control: TRUE; Mounting Technology: Surface Mount; Code_JEDEC: MS-012; Code_IPC: J-STD-020; ComponentLink1Description: Manufacturer URL; ComponentLink1URL: http://www.silabs.com/; ComponentLink2Description: Datasheet; ComponentLink2URL: http://www.silabs.com/Support%20Documents/TechnicalDocs/Si843x.pdf; ComponentLink3Description: Package Specification; ComponentLink3URL: http://www.silabs.com/Support%20Documents/TechnicalDocs/si2401.pdf
footprint SLAB-SOIC-16-NB_N (SOIC, 16-Leads, Body 9.9x3.9mm, Pitch 1.27mm, IPC Medium Density)
footprint SLAB-SOIC-16-NB_L (SOIC, 16-Leads, Body 9.9x3.9mm, Pitch 1.27mm, IPC High Density)
footprint SLAB-SOIC-16-NB_M (SOIC, 16-Leads, Body 9.9x3.9mm, Pitch 1.27mm, IPC Low Density)
part A pins: 1 VDD1 (power) "Side 1 power supply.", 2 GND1 (power) "Side 1 ground.", 3 A1 (in) "Side 1 digital input.", 4 A2 (in) "Side 1 digital input.", 5 A3 (in) "Side 1 digital input.", 8 GND1 (power) "Side 1 ground.", 9 GND2 (power) "Side 2 ground.", 10 EN2 (in) "Side 2 active high enable.", 12 B3 (out) "Side 2 digital output.", 13 B2 (out) "Side 2 digital output.", 14 B1 (out) "Side 2 digital output.", 15 GND2 (power) "Side 2 ground.", 16 VDD2 (power) "Side 2 power supply."
part B pins: 6 NC "No Connect.", 7 NC "No Connect.", 11 NC "No Connect."

## Si8430BB-D-IS
designator U?
Low-Power Triple-Channel Digital Isolator, 150 Mbps, 2.5 kVRMS Isolation Rating, -40 to 125 degC, 16-pin SOIC; Manufacturer: Silicon Labs; PartNumber: Si8430BB-D-IS; 10kV surge: FALSE; AEC-Q100: TRUE; Channel Type: Unidirectional; Isolation Rating (kV): 2.5; Maximum Data Rate (Mbps): 150; Maximum Propagation Delay (ns): 9.5; Sub-Family: Isolators; DatasheetVersion: Rev. 1.5; PackageReference: SOIC-16-WB; PackageDescription: 16-Pin Wide Body Plastic Small Outline, Body 10.3 x 7.5 mm, Pitch 1.27 mm; Supplier 1: Digi-Key; Supplier Part Number 1: SI8430BB-D-IS-ND; Supplier 2: Mouser; Supplier Part Number 2: 634-SI8430BB-D-IS; Enable Control: TRUE; Mounting Technology: Surface Mount; Code_JEDEC: MS-013; ComponentLink1Description: Manufacturer URL; ComponentLink1URL: http://www.silabs.com/; ComponentLink2Description: Datasheet; ComponentLink2URL: http://www.silabs.com/Support%20Documents/TechnicalDocs/Si843x.pdf; ComponentLink3Description: Package Specification; ComponentLink3URL: https://www.silabs.com/Support%20Documents/TechnicalDocs/Si823x.pdf
footprint SLAB-SOIC-16-WB_N (SOIC, 16-Leads, Body 10.3x7.5mm, Pitch 1.27mm, IPC Medium Density)
footprint SLAB-SOIC-16-WB_L (SOIC, 16-Leads, Body 10.3x7.5mm, Pitch 1.27mm, IPC High Density)
footprint SLAB-SOIC-16-WB_M (SOIC, 16-Leads, Body 10.3x7.5mm, Pitch 1.27mm, IPC Low Density)
pins: 1 VDD1 (power) "Side 1 power supply.", 2 GND1 (power) "Side 1 ground.", 3 A1 (in) "Side 1 digital input.", 4 A2 (in) "Side 1 digital input.", 5 A3 (in) "Side 1 digital input.", 6 NC "No Connect.", 7 NC "No Connect.", 8 GND1 (power) "Side 1 ground.", 9 GND2 (power) "Side 2 ground.", 10 EN2 (in) "Side 2 active high enable.", 11 NC "No Connect.", 12 B3 (hiz) "Side 2 digital output.", 13 B2 (hiz) "Side 2 digital output.", 14 B1 (hiz) "Side 2 digital output.", 15 GND2 (power) "Side 2 ground.", 16 VDD2 (power) "Side 2 power supply."

## Si8430BB-D-IS1
designator U?
Low-Power Triple-Channel Digital Isolator, 150 Mbps, 2.5 kVRMS Isolation Rating, -40 to 125 degC, 16-pin SOIC; Manufacturer: Silicon Labs; PartNumber: Si8430BB-D-IS1; 10kV surge: FALSE; AEC-Q100: TRUE; Channel Type: Unidirectional; Isolation Rating (kV): 2.5; Maximum Data Rate (Mbps): 150; Maximum Propagation Delay (ns): 9.5; Sub-Family: Isolators; DatasheetVersion: Rev. 1.5; PackageReference: SOIC-16-NB; PackageDescription: 16-Pin Small-Outline Integrated Circuit, Body 9.9 x 3.9 mm, Pitch 1.27 mm; Supplier 1: Digi-Key; Supplier Part Number 1: SI8430BB-D-IS1-ND; Supplier 2: Mouser; Supplier Part Number 2: 634-SI8430BB-D-IS1; Enable Control: TRUE; Mounting Technology: Surface Mount; Code_JEDEC: MS-012; Code_IPC: J-STD-020; ComponentLink1Description: Manufacturer URL; ComponentLink1URL: http://www.silabs.com/; ComponentLink2Description: Datasheet; ComponentLink2URL: http://www.silabs.com/Support%20Documents/TechnicalDocs/Si843x.pdf; ComponentLink3Description: Package Specification; ComponentLink3URL: http://www.silabs.com/Support%20Documents/TechnicalDocs/si2401.pdf
footprint SLAB-SOIC-16-NB_N (SOIC, 16-Leads, Body 9.9x3.9mm, Pitch 1.27mm, IPC Medium Density)
footprint SLAB-SOIC-16-NB_L (SOIC, 16-Leads, Body 9.9x3.9mm, Pitch 1.27mm, IPC High Density)
footprint SLAB-SOIC-16-NB_M (SOIC, 16-Leads, Body 9.9x3.9mm, Pitch 1.27mm, IPC Low Density)
pins: 1 VDD1 (power) "Side 1 power supply.", 2 GND1 (power) "Side 1 ground.", 3 A1 (in) "Side 1 digital input.", 4 A2 (in) "Side 1 digital input.", 5 A3 (in) "Side 1 digital input.", 6 NC "No Connect.", 7 NC "No Connect.", 8 GND1 (power) "Side 1 ground.", 9 GND2 (power) "Side 2 ground.", 10 EN2 (in) "Side 2 active high enable.", 11 NC "No Connect.", 12 B3 (hiz) "Side 2 digital output.", 13 B2 (hiz) "Side 2 digital output.", 14 B1 (hiz) "Side 2 digital output.", 15 GND2 (power) "Side 2 ground.", 16 VDD2 (power) "Side 2 power supply."

## Si8431AB-C-IS
designator U?
Low-Power Triple-Channel Digital Isolator, 1 Mbps, 2.5 kVRMS Isolation Rating, -40 to 125 degC, 16-pin SOIC; Manufacturer: Silicon Labs; PartNumber: Si8431AB-C-IS; Note: 0; 10kV surge: FALSE; AEC-Q100: TRUE; Channel Type: Unidirectional; Isolation Rating (kV): 2.5; Maximum Data Rate (Mbps): 1; Maximum Propagation Delay (ns): 35; Sub-Family: Isolators; DatasheetVersion: Rev. 1.5; PackageReference: SOIC-16-WB; PackageDescription: 16-Pin Wide Body Plastic Small Outline, Body 10.3 x 7.5 mm, Pitch 1.27 mm; Enable Control: TRUE; Mounting Technology: Surface Mount; Code_JEDEC: MS-013; ComponentLink1Description: Manufacturer URL; ComponentLink1URL: http://www.silabs.com/; ComponentLink2Description: Datasheet; ComponentLink2URL: http://www.silabs.com/Support%20Documents/TechnicalDocs/Si843x.pdf; ComponentLink3Description: Package Specification; ComponentLink3URL: https://www.silabs.com/Support%20Documents/TechnicalDocs/Si823x.pdf
footprint SLAB-SOIC-16-WB_N (SOIC, 16-Leads, Body 10.3x7.5mm, Pitch 1.27mm, IPC Medium Density)
footprint SLAB-SOIC-16-WB_L (SOIC, 16-Leads, Body 10.3x7.5mm, Pitch 1.27mm, IPC High Density)
footprint SLAB-SOIC-16-WB_M (SOIC, 16-Leads, Body 10.3x7.5mm, Pitch 1.27mm, IPC Low Density)
pins: 1 VDD1 (power) "Side 1 power supply.", 2 GND1 (power) "Side 1 ground.", 3 A1 (in) "Side 1 digital input.", 4 A2 (in) "Side 1 digital input.", 5 A3 (out) "Side 2 digital output.", 6 NC "No Connect.", 7 EN1 (in) "Side 1 active high enable", 8 GND1 (power) "Side 1 ground.", 9 GND2 (power) "Side 2 ground.", 10 EN2 (in) "Side 2 active high enable.", 11 NC "No Connect.", 12 B3 (in) "Side 1 digital input.", 13 B2 (out) "Side 2 digital output.", 14 B1 (out) "Side 2 digital output.", 15 GND2 (power) "Side 2 ground.", 16 VDD2 (power) "Side 2 power supply."

## Si8431AB-C-IS1
designator U?
Low-Power Triple-Channel Digital Isolator, 1 Mbps, 2.5 kVRMS Isolation Rating, -40 to 125 degC, 16-pin SOIC; Manufacturer: Silicon Labs; PartNumber: Si8431AB-C-IS1; 10kV surge: FALSE; AEC-Q100: TRUE; Channel Type: Unidirectional; Isolation Rating (kV): 2.5; Maximum Data Rate (Mbps): 1; Maximum Propagation Delay (ns): 35; Sub-Family: Isolators; DatasheetVersion: Rev. 1.5; PackageReference: SOIC-16-NB; PackageDescription: 16-Pin Small-Outline Integrated Circuit, Body 9.9 x 3.9 mm, Pitch 1.27 mm; Supplier 1: Digi-Key; Supplier Part Number 1: SI8431AB-C-IS1-ND; Enable Control: TRUE; Mounting Technology: Surface Mount; Code_JEDEC: MS-012; Code_IPC: J-STD-020; ComponentLink1Description: Manufacturer URL; ComponentLink1URL: http://www.silabs.com/; ComponentLink2Description: Datasheet; ComponentLink2URL: http://www.silabs.com/Support%20Documents/TechnicalDocs/Si843x.pdf; ComponentLink3Description: Package Specification; ComponentLink3URL: http://www.silabs.com/Support%20Documents/TechnicalDocs/si2401.pdf
footprint SLAB-SOIC-16-NB_N (SOIC, 16-Leads, Body 9.9x3.9mm, Pitch 1.27mm, IPC Medium Density)
footprint SLAB-SOIC-16-NB_L (SOIC, 16-Leads, Body 9.9x3.9mm, Pitch 1.27mm, IPC High Density)
footprint SLAB-SOIC-16-NB_M (SOIC, 16-Leads, Body 9.9x3.9mm, Pitch 1.27mm, IPC Low Density)
pins: 1 VDD1 (power) "Side 1 power supply.", 2 GND1 (power) "Side 1 ground.", 3 A1 (in) "Side 1 digital input.", 4 A2 (in) "Side 1 digital input.", 5 A3 (out) "Side 2 digital output.", 6 NC "No Connect.", 7 EN1 (in) "Side 1 active high enable", 8 GND1 (power) "Side 1 ground.", 9 GND2 (power) "Side 2 ground.", 10 EN2 (in) "Side 2 active high enable.", 11 NC "No Connect.", 12 B3 (in) "Side 1 digital input.", 13 B2 (out) "Side 2 digital output.", 14 B1 (out) "Side 2 digital output.", 15 GND2 (power) "Side 2 ground.", 16 VDD2 (power) "Side 2 power supply."

## Si8431AB-D-IS
designator U?
Low-Power Triple-Channel Digital Isolator, 1 Mbps, 2.5 kVRMS Isolation Rating, -40 to 125 degC, 16-pin SOIC; Manufacturer: Silicon Labs; PartNumber: Si8431AB-D-IS; 10kV surge: FALSE; AEC-Q100: TRUE; Channel Type: Unidirectional; Isolation Rating (kV): 2.5; Maximum Data Rate (Mbps): 1; Maximum Propagation Delay (ns): 35; Sub-Family: Isolators; DatasheetVersion: Rev. 1.5; PackageReference: SOIC-16-WB; PackageDescription: 16-Pin Wide Body Plastic Small Outline, Body 10.3 x 7.5 mm, Pitch 1.27 mm; Supplier 1: Digi-Key; Supplier Part Number 1: 336-1758-5-ND; Supplier 2: Mouser; Supplier Part Number 2: 634-SI8431AB-D-IS; Enable Control: TRUE; Mounting Technology: Surface Mount; Code_JEDEC: MS-013; ComponentLink1Description: Manufacturer URL; ComponentLink1URL: http://www.silabs.com/; ComponentLink2Description: Datasheet; ComponentLink2URL: http://www.silabs.com/Support%20Documents/TechnicalDocs/Si843x.pdf; ComponentLink3Description: Package Specification; ComponentLink3URL: https://www.silabs.com/Support%20Documents/TechnicalDocs/Si823x.pdf
footprint SLAB-SOIC-16-WB_N (SOIC, 16-Leads, Body 10.3x7.5mm, Pitch 1.27mm, IPC Medium Density)
footprint SLAB-SOIC-16-WB_L (SOIC, 16-Leads, Body 10.3x7.5mm, Pitch 1.27mm, IPC High Density)
footprint SLAB-SOIC-16-WB_M (SOIC, 16-Leads, Body 10.3x7.5mm, Pitch 1.27mm, IPC Low Density)
pins: 1 VDD1 (power) "Side 1 power supply.", 2 GND1 (power) "Side 1 ground.", 3 A1 (in) "Side 1 digital input.", 4 A2 (in) "Side 1 digital input.", 5 A3 (hiz) "Side 1 digital output.", 6 NC "No Connect.", 7 EN1 (in) "Side 1 active high enable", 8 GND1 (power) "Side 1 ground.", 9 GND2 (power) "Side 2 ground.", 10 EN2 (in) "Side 2 active high enable.", 11 NC "No Connect.", 12 B3 (in) "Side 2 digital input.", 13 B2 (hiz) "Side 2 digital output.", 14 B1 (hiz) "Side 2 digital output.", 15 GND2 (power) "Side 2 ground.", 16 VDD2 (power) "Side 2 power supply."